# EAGLE library part HALUI (library hal-config)
HalUI Interface to HAL Because there can be only one HALUI, you must delete the device number after placement: HALUI.1 -> HALUI Invoke the HALUI device to add other blocks. Axis, jogs, and joints are in separate devices to allow automagic device numbering.
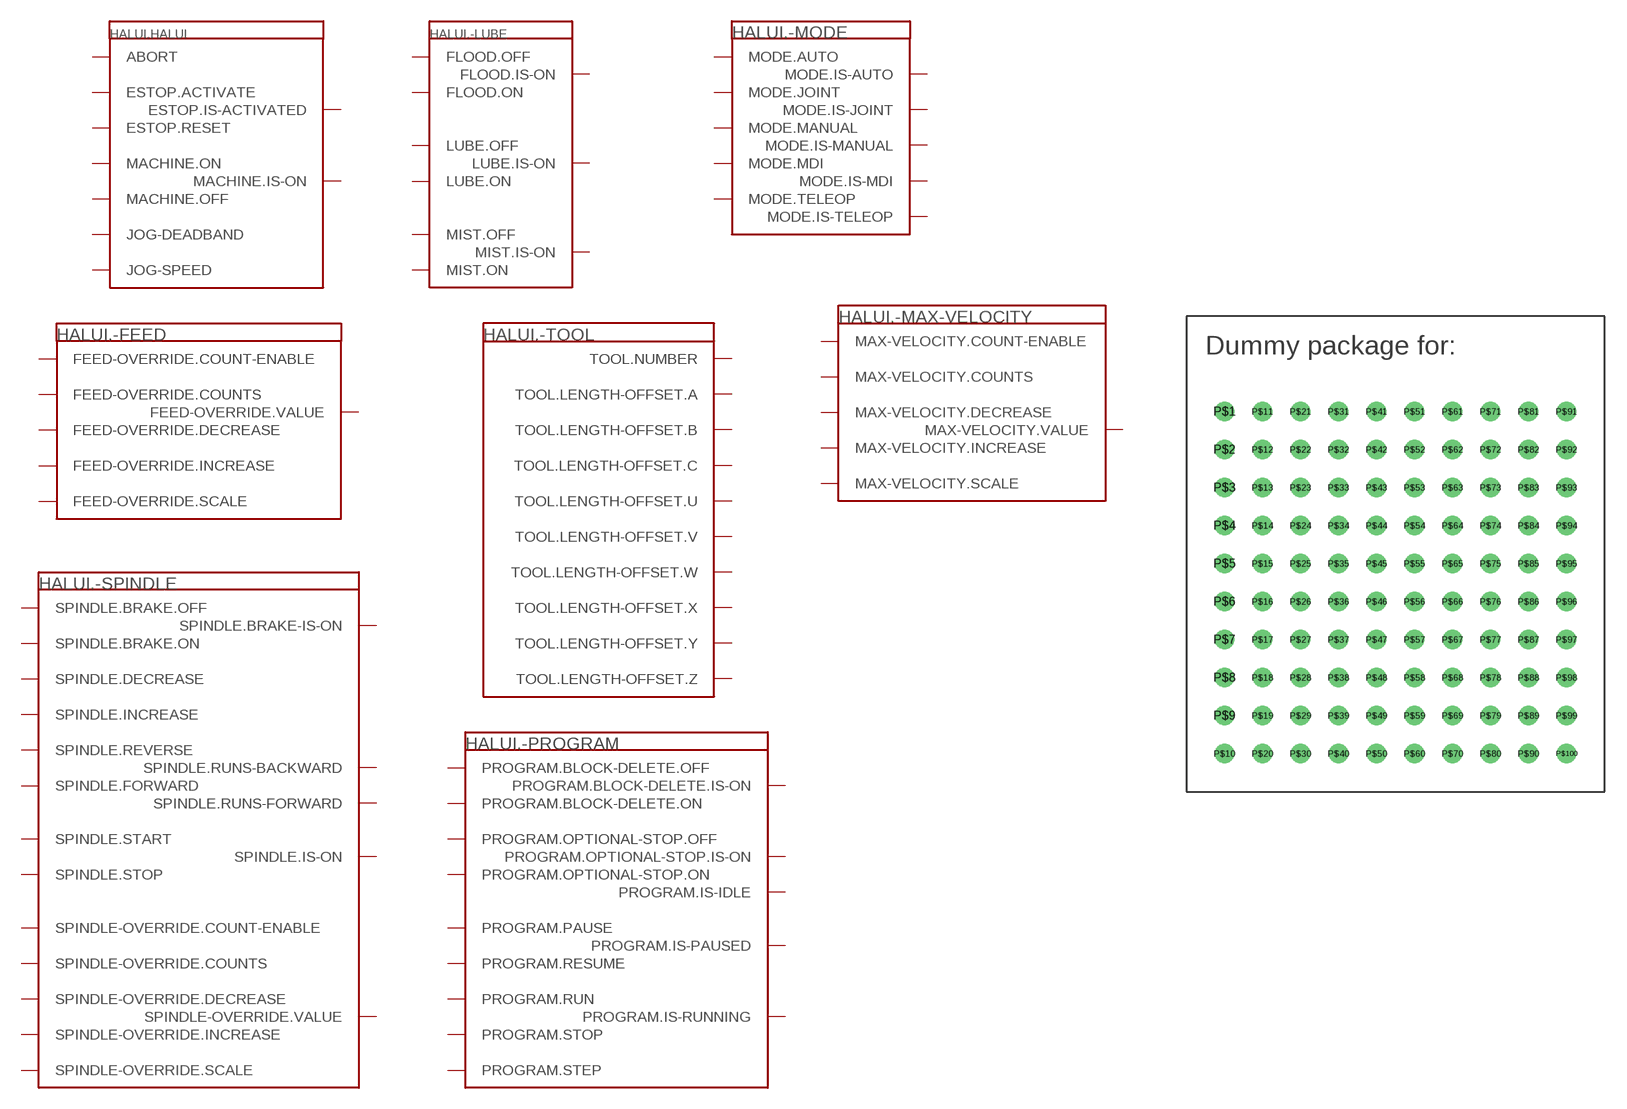
[diagram p14: symbol with the pads of DUMMY; footprint DUMMY]

Designator prefix HALUI.; gates HALUI=HALUI -LUBE=HALUI-LUBE -FEED=HALUI-FEED -TOOL=HALUI-TOOL -SPINDLE=HALUI-SPINDLE -PROGRAM=HALUI-PROGRAM -MODE=HALUI-MODE -MAX-VELOCITY=HALUI-VELOCITY

## HALUI  [DUMMY]
P$1  HALUI:ABORT  in
P$2  HALUI:ESTOP.ACTIVATE  in
P$3  HALUI:ESTOP.IS-ACTIVATED  out
P$4  HALUI:ESTOP.RESET  in
P$5  HALUI:MACHINE.IS-ON  out
P$6  HALUI:MACHINE.OFF  in
P$7  HALUI:MACHINE.ON  in
P$8  -LUBE:FLOOD.IS-ON  out
P$9  -LUBE:FLOOD.OFF  in
P$10  -LUBE:FLOOD.ON  in
P$11  -LUBE:LUBE.IS-ON  out
P$12  -LUBE:LUBE.OFF  in
P$13  -LUBE:LUBE.ON  in
P$14  -LUBE:MIST.IS-ON  out
P$15  -LUBE:MIST.OFF  in
P$16  -LUBE:MIST.ON  in
P$17  -FEED:FEED-OVERRIDE.COUNT-ENABLE  in
P$18  -FEED:FEED-OVERRIDE.COUNTS  in
P$19  -FEED:FEED-OVERRIDE.DECREASE  in
P$20  -FEED:FEED-OVERRIDE.INCREASE  in
P$21  -FEED:FEED-OVERRIDE.SCALE  in
P$22  -FEED:FEED-OVERRIDE.VALUE  out
P$23  -TOOL:TOOL.LENGTH-OFFSET.A  out
P$24  -TOOL:TOOL.LENGTH-OFFSET.B  out
P$25  -TOOL:TOOL.LENGTH-OFFSET.C  out
P$26  -TOOL:TOOL.LENGTH-OFFSET.U  out
P$27  -TOOL:TOOL.LENGTH-OFFSET.V  out
P$28  -TOOL:TOOL.LENGTH-OFFSET.W  out
P$29  -TOOL:TOOL.LENGTH-OFFSET.X  out
P$30  -TOOL:TOOL.LENGTH-OFFSET.Y  out
P$31  -TOOL:TOOL.LENGTH-OFFSET.Z  out
P$32  -TOOL:TOOL.NUMBER  out
P$33  -PROGRAM:PROGRAM.BLOCK-DELETE.IS-ON  out
P$34  -PROGRAM:PROGRAM.BLOCK-DELETE.OFF  in
P$35  -PROGRAM:PROGRAM.BLOCK-DELETE.ON  in
P$36  -PROGRAM:PROGRAM.IS-IDLE  out
P$37  -PROGRAM:PROGRAM.IS-PAUSED  out
P$38  -PROGRAM:PROGRAM.IS-RUNNING  out
P$39  -PROGRAM:PROGRAM.OPTIONAL-STOP.IS-ON  out
P$40  -PROGRAM:PROGRAM.OPTIONAL-STOP.OFF  in
P$41  -PROGRAM:PROGRAM.OPTIONAL-STOP.ON  in
P$42  -PROGRAM:PROGRAM.PAUSE  in
P$43  -PROGRAM:PROGRAM.RESUME  in
P$44  -PROGRAM:PROGRAM.RUN  in
P$45  -PROGRAM:PROGRAM.STEP  in
P$46  -PROGRAM:PROGRAM.STOP  in
P$47  -SPINDLE:SPINDLE-OVERRIDE.COUNT-ENABLE  in
P$48  -SPINDLE:SPINDLE-OVERRIDE.COUNTS  in
P$49  -SPINDLE:SPINDLE-OVERRIDE.DECREASE  in
P$50  -SPINDLE:SPINDLE-OVERRIDE.INCREASE  in
P$51  -SPINDLE:SPINDLE-OVERRIDE.SCALE  in
P$52  -SPINDLE:SPINDLE-OVERRIDE.VALUE  out
P$53  -SPINDLE:SPINDLE.BRAKE-IS-ON  out
P$54  -SPINDLE:SPINDLE.BRAKE.OFF  in
P$55  -SPINDLE:SPINDLE.BRAKE.ON  in
P$56  -SPINDLE:SPINDLE.DECREASE  in
P$57  -SPINDLE:SPINDLE.FORWARD  in
P$58  -SPINDLE:SPINDLE.INCREASE  in
P$59  -SPINDLE:SPINDLE.IS-ON  out
P$60  -SPINDLE:SPINDLE.REVERSE  in
P$61  -SPINDLE:SPINDLE.RUNS-BACKWARD  out
P$62  -SPINDLE:SPINDLE.RUNS-FORWARD  out
P$63  -SPINDLE:SPINDLE.START  in
P$64  -SPINDLE:SPINDLE.STOP  in
P$65  -MODE:MODE.AUTO  in
P$66  -MODE:MODE.IS-AUTO  out
P$67  -MODE:MODE.IS-JOINT  out
P$68  -MODE:MODE.IS-MANUAL  out
P$69  -MODE:MODE.IS-MDI  out
P$70  -MODE:MODE.IS-TELEOP  out
P$71  -MODE:MODE.JOINT  in
P$72  -MODE:MODE.MANUAL  in
P$73  -MODE:MODE.MDI  in
P$74  -MODE:MODE.TELEOP  in
P$75  -MAX-VELOCITY:MAX-VELOCITY.COUNT-ENABLE  in
P$76  -MAX-VELOCITY:MAX-VELOCITY.COUNTS  in
P$77  -MAX-VELOCITY:MAX-VELOCITY.DECREASE  in
P$78  -MAX-VELOCITY:MAX-VELOCITY.INCREASE  in
P$79  -MAX-VELOCITY:MAX-VELOCITY.SCALE  in
P$80  -MAX-VELOCITY:MAX-VELOCITY.VALUE  out
P$81  HALUI:JOG-DEADBAND  in
P$82  HALUI:JOG-SPEED  in

## Footprint DUMMY (pad centres in mm)
drill 0.8: P$1 0,-1.27; P$2 0,-3.81; P$3 0,-6.35; P$4 0,-8.89; P$5 0,-11.43; P$6 0,-13.97; P$7 0,-16.51; P$8 0,-19.05; P$9 0,-21.59; P$10 0,-24.13; P$11 2.54,-1.27; P$12 2.54,-3.81; P$13 2.54,-6.35; P$14 2.54,-8.89; P$15 2.54,-11.43; P$16 2.54,-13.97; P$17 2.54,-16.51; P$18 2.54,-19.05; P$19 2.54,-21.59; P$20 2.54,-24.13; P$21 5.08,-1.27; P$22 5.08,-3.81; P$23 5.08,-6.35; P$24 5.08,-8.89; P$25 5.08,-11.43; P$26 5.08,-13.97; P$27 5.08,-16.51; P$28 5.08,-19.05; P$29 5.08,-21.59; P$30 5.08,-24.13; P$31 7.62,-1.27; P$32 7.62,-3.81; P$33 7.62,-6.35; P$34 7.62,-8.89; P$35 7.62,-11.43; P$36 7.62,-13.97; P$37 7.62,-16.51; P$38 7.62,-19.05; P$39 7.62,-21.59; P$40 7.62,-24.13; P$41 10.16,-1.27; P$42 10.16,-3.81; P$43 10.16,-6.35; P$44 10.16,-8.89; P$45 10.16,-11.43; P$46 10.16,-13.97; P$47 10.16,-16.51; P$48 10.16,-19.05; P$49 10.16,-21.59; P$50 10.16,-24.13; P$51 12.7,-1.27; P$52 12.7,-3.81; P$53 12.7,-6.35; P$54 12.7,-8.89; P$55 12.7,-11.43; P$56 12.7,-13.97; P$57 12.7,-16.51; P$58 12.7,-19.05; P$59 12.7,-21.59; P$60 12.7,-24.13; P$61 15.24,-1.27; P$62 15.24,-3.81; P$63 15.24,-6.35; P$64 15.24,-8.89; P$65 15.24,-11.43; P$66 15.24,-13.97; P$67 15.24,-16.51; P$68 15.24,-19.05; P$69 15.24,-21.59; P$70 15.24,-24.13; P$71 17.78,-1.27; P$72 17.78,-3.81; P$73 17.78,-6.35; P$74 17.78,-8.89; P$75 17.78,-11.43; P$76 17.78,-13.97; P$77 17.78,-16.51; P$78 17.78,-19.05; P$79 17.78,-21.59; P$80 17.78,-24.13; P$81 20.32,-1.27; P$82 20.32,-3.81; P$83 20.32,-6.35; P$84 20.32,-8.89; P$85 20.32,-11.43; P$86 20.32,-13.97; P$87 20.32,-16.51; P$88 20.32,-19.05; P$89 20.32,-21.59; P$90 20.32,-24.13; P$91 22.86,-1.27; P$92 22.86,-3.81; P$93 22.86,-6.35; P$94 22.86,-8.89; P$95 22.86,-11.43; P$96 22.86,-13.97; P$97 22.86,-16.51; P$98 22.86,-19.05; P$99 22.86,-21.59; P$100 22.86,-24.13